# EAGLE library part IMC5 (library con-phoenix-381_l)
Invertierter Mini-Combicon 3.81mm horizontal 5-polig IMC 1,5/5-G-3,81 (ohne Gegenstecker)
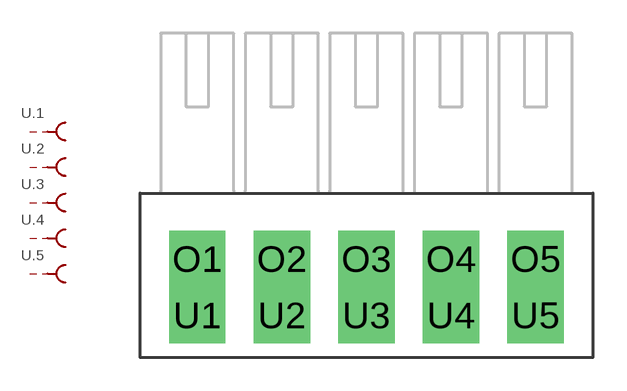
[diagram p21: symbol with the pads of IMC5; footprint IMC5]

Designator prefix -; gates .3=MCBU .2=MCBU .1=MCBU .4=MCBU .5=MCBU

## IMC5  [IMC5]
O1  .1:S  pas
O2  .2:S  pas
O3  .3:S  pas
O4  .4:S  pas
O5  .5:S  pas
U1  .1:SK  pas
U2  .2:SK  pas
U3  .3:SK  pas
U4  .4:SK  pas
U5  .5:SK  pas

## Footprint IMC5 (pad centres in mm)
Mini-Combicon 3.81mm horizontal 5-polig invertiert IMC 1,5/5-G-3,81 Artikel-Nr. 1862603
drill 1.27 pad 2.54 square: O1 -7.62,1.27; O2 -3.81,1.27; O3 0,1.27; O4 3.81,1.27; O5 7.62,1.27; U1 -7.62,-1.27; U2 -3.81,-1.27; U3 0,-1.27; U4 3.81,-1.27; U5 7.62,-1.27